# EAGLE library part MOLEX_SL_37 (library molex-sl-connectors_jw)
Molex SL-Series PCB Header, 37-Pos, 0.1" (2.54mm) Centers
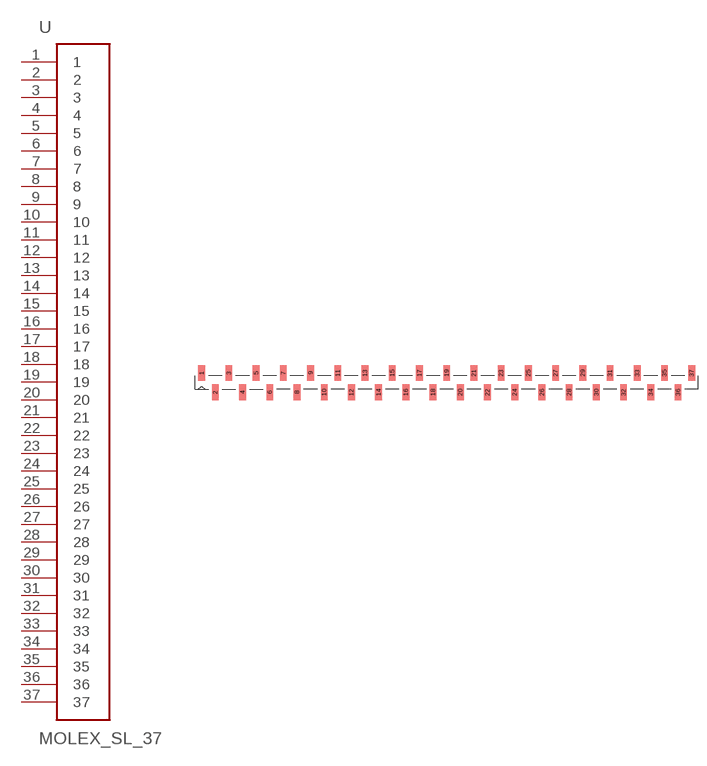
[diagram p31: symbol with the pads of SL_87898_37; footprint SL_87898_37]

Designator prefix -

## MOLEX_SL_37-87898  [SL_87898_37]
1  1
2  2
3  3
4  4
5  5
6  6
7  7
8  8
9  9
10  10
11  11
12  12
13  13
14  14
15  15
16  16
17  17
18  18
19  19
20  20
21  21
22  22
23  23
24  24
25  25
26  26
27  27
28  28
29  29
30  30
31  31
32  32
33  33
34  34
35  35
36  36
37  37

## Footprint SL_87898_37 (pad centres in mm)
SMD Vertical Header (no latch or pegs) Package also includes Pick-N-Place Cap Tube packaging w/o Pick-N-Place Cap: 87898-3721 87898-3722 87898-3724 87898-3725 87898-3726 Tube packaging w/ Pick-N-Place Cap: 87898-3731 87898-3732 87898-3734 87898-3735 87898-3736
smd 1.27 x 2.946: 1 -45.72,1.803; 2 -43.18,-1.803; 3 -40.64,1.803; 4 -38.1,-1.803; 5 -35.56,1.803; 6 -33.02,-1.803; 7 -30.48,1.803; 8 -27.94,-1.803; 9 -25.4,1.803; 10 -22.86,-1.803; 11 -20.32,1.803; 12 -17.78,-1.803; 13 -15.24,1.803; 14 -12.7,-1.803; 15 -10.16,1.803; 16 -7.62,-1.803; 17 -5.08,1.803; 18 -2.54,-1.803; 19 0,1.803; 20 2.54,-1.803; 21 5.08,1.803; 22 7.62,-1.803; 23 10.16,1.803; 24 12.7,-1.803; 25 15.24,1.803; 26 17.78,-1.803; 27 20.32,1.803; 28 22.86,-1.803; 29 25.4,1.803; 30 27.94,-1.803; 31 30.48,1.803; 32 33.02,-1.803; 33 35.56,1.803; 34 38.1,-1.803; 35 40.64,1.803; 36 43.18,-1.803; 37 45.72,1.803